# Altium schematic symbol library SSW-119-06-S-S.SchLib: 1 symbol
Pins are listed as number, name and electrical type; pins without a type are passive.

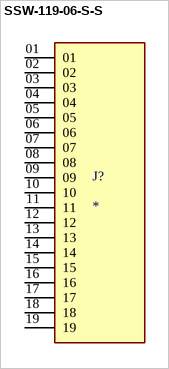
[diagram p0: symbol SSW-119-06-S-S]

## SSW-119-06-S-S
designator J?
CONN RCPT 19POS 0.1 GOLD PCB; MF: Samtec; MP: SSW-119-06-S-S; SnapEDA_Link: https://www.snapeda.com/parts/SSW-119-06-S-S/Samtec/view-part/?ref=snap; Package: None; Value: *; Check_prices: https://www.snapeda.com/parts/SSW-119-06-S-S/Samtec/view-part/?ref=eda
footprint SAMTEC_SSW-119-06-S-S
pins: 01, 02, 03, 04, 05, 06, 07, 08, 09, 10, 11, 12, 13, 14, 15, 16, 17, 18, 19